# Altium footprint library imxbb.PcbLib: 75 footprints (part 4 of 5)
Each footprint in its own frame and in the unit in brackets; x right, y up, seen from the top. Pads: shape width x height; smd on the part's side, far side on the other; paste and mask are expansions set on the pad; w line width, h text height; cw(c..) or ccw(c..) is an arc to the next point about the centre after c.
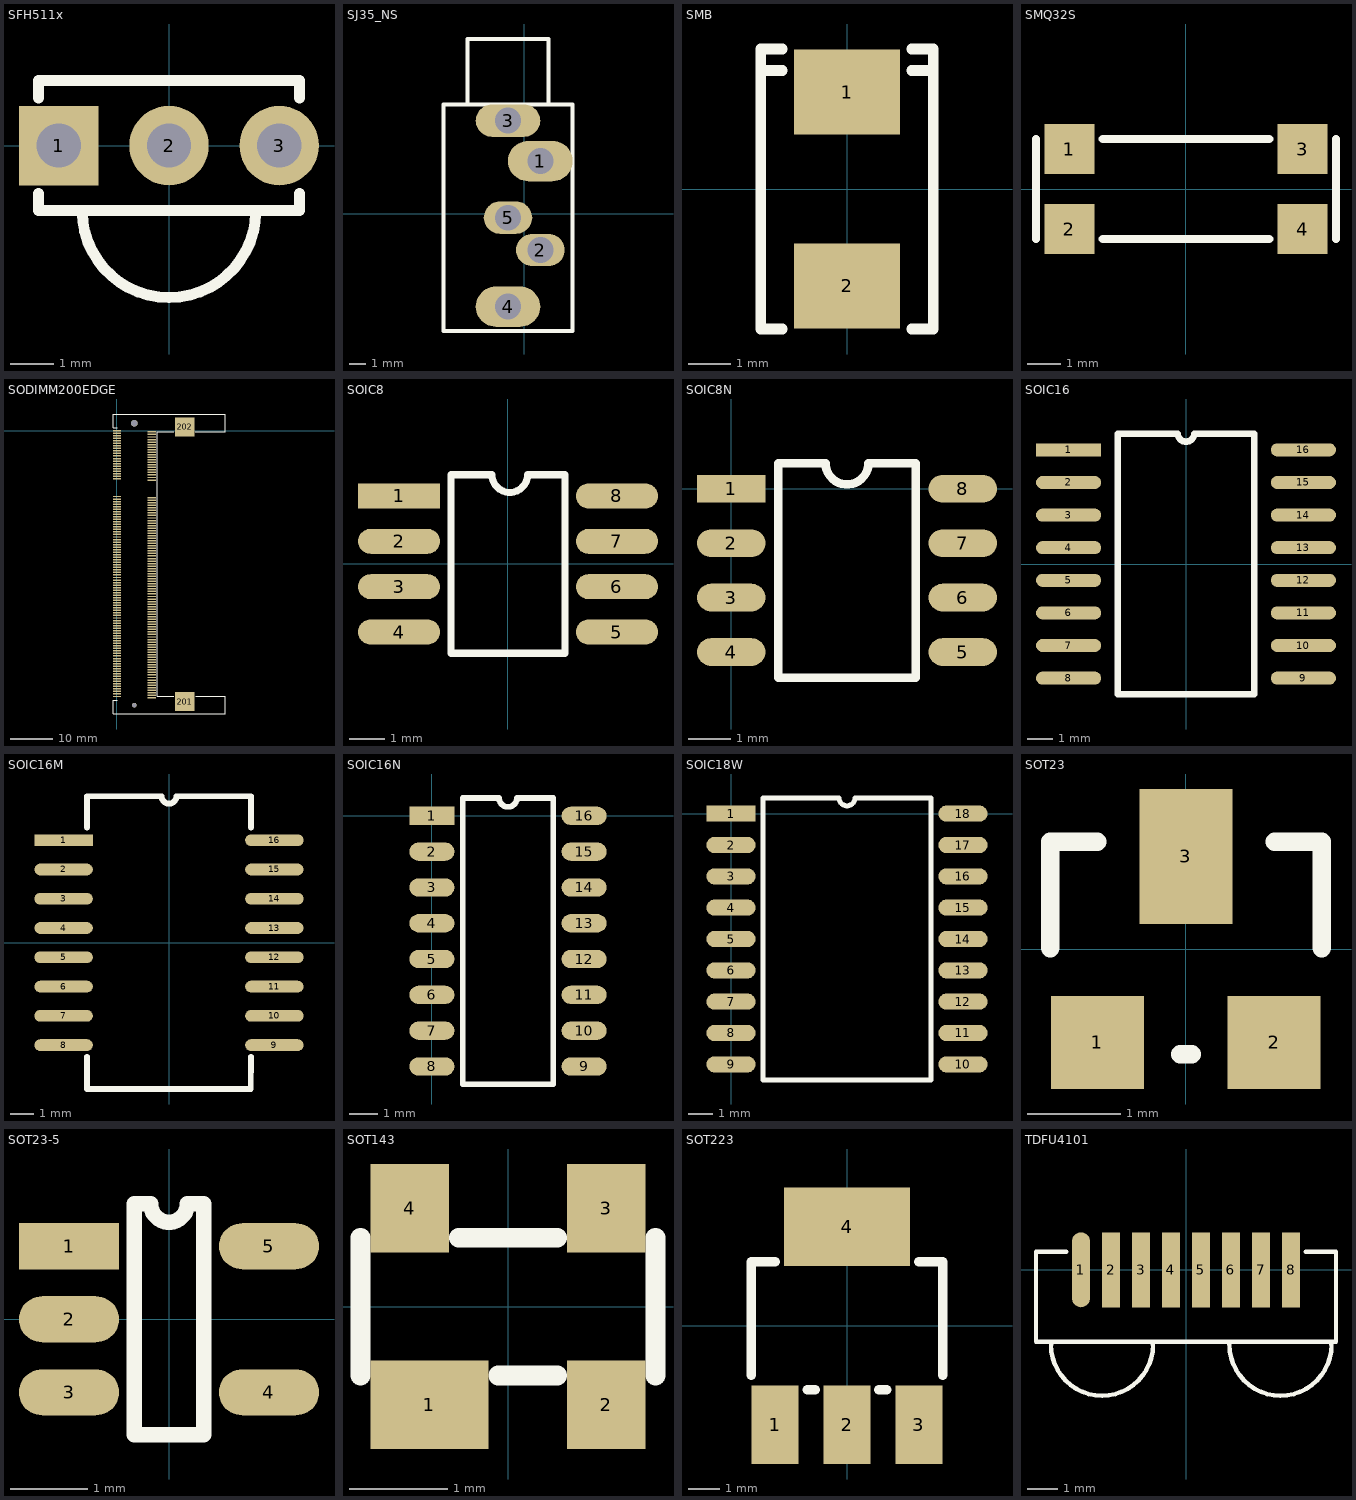
[diagram p3: the footprints below, top view; thin cyan lines are the x and y axes]

## SFH511x [mil]
pads (3):
  rect 72x72 hole 40: 1(-100,0)
  round 72 hole 40: 2(0,0) 3(100,0)
Top Overlay:
  lines w10: -118.11,-43.31 -118.11,-59.06 118.11,-59.06 118.11,-43.31 ; -118.11,43.31 -118.11,59.05 118.11,59.05 118.11,43.31 ; -78.74,-59.06 ccw(c0,-59.06) 78.74,-59.06

## SJ35_NS [mm]
pads (5):
  oval 4x2.5 hole 1.6: 1(1,3.25) 4(-1,-5.75)
  oval 3x2 hole 1.6: 2(1,-2.25) 5(-1,-0.25)
  oval 4x2 hole 1.6: 3(-1,5.75)
Top Overlay:
  lines w0.254: -3.5,6.75 -3.5,10.8 1.5,10.8 1.5,6.75 ; -5,-7.25 3,-7.25 3,6.75 -5,6.75 -5,-7.25

## SMB [mm]
pads (2):
  rect 2.5x2 smd: 1(0,2.286) 2(0,-2.286)
Top Overlay:
  lines w0.254: -2.032,2.794 -1.524,2.794 ; -1.524,-3.302 -2.032,-3.302 -2.032,3.302 -1.524,3.302 ; 1.524,-3.302 2.032,-3.302 2.032,3.302 1.524,3.302 ; 1.524,2.794 2.032,2.794

## SMQ32S [mm]
pads (4):
  rect 1.5x1.5 smd: 1(-3.495,1.21) 2(-3.495,-1.19) 3(3.505,1.21) 4(3.505,-1.19)
Top Overlay:
  lines w0.254: -4.495,-1.49 -4.495,1.51 ; -2.495,-1.49 2.505,-1.49 ; -2.495,1.51 2.505,1.51 ; 4.505,-1.49 4.505,1.51

## SODIMM200EDGE [mm]
pads (204):
  rect 2x0.35 smd: 1(0,0) 2(8.2,-0.3) 3(0,-0.6) 4(8.2,-0.9) 5(0,-1.2) 6(8.2,-1.5) 7(0,-1.8) 8(8.2,-2.1) 9(0,-2.4) 10(8.2,-2.7) 11(0,-3) 12(8.2,-3.3) 13(0,-3.6) 14(8.2,-3.9) 15(0,-4.2) 16(8.2,-4.5) 17(0,-4.8) 18(8.2,-5.1) 19(0,-5.4) 20(8.2,-5.7) 21(0,-6) 22(8.2,-6.3) 23(0,-6.6) 24(8.2,-6.9) 25(0,-7.2) 26(8.2,-7.5) 27(0,-7.8) 28(8.2,-8.1) 29(0,-8.4) 30(8.2,-8.7) 31(0,-9) 32(8.2,-9.3) 33(0,-9.6) 34(8.2,-9.9) 35(0,-10.2) 36(8.2,-10.5) 37(0,-10.8) 38(8.2,-11.1) 39(0,-11.4) 40(8.2,-11.7) 41(0,-15.6) 42(8.2,-15.9) 43(0,-16.2) 44(8.2,-16.5) 45(0,-16.8) 46(8.2,-17.1) 47(0,-17.4) 48(8.2,-17.7) 49(0,-18) 50(8.2,-18.3) 51(0,-18.6) 52(8.2,-18.9) 53(0,-19.2) 54(8.2,-19.5) 55(0,-19.8) 56(8.2,-20.1) 57(0,-20.4) 58(8.2,-20.7) 59(0,-21) 60(8.2,-21.3) 61(0,-21.6) 62(8.2,-21.9) 63(0,-22.2) 64(8.2,-22.5) 65(0,-22.8) 66(8.2,-23.1) 67(0,-23.4) 68(8.2,-23.7) 69(0,-24) 70(8.2,-24.3) 71(0,-24.6) 72(8.2,-24.9) 73(0,-25.2) 74(8.2,-25.5) 75(0,-25.8) 76(8.2,-26.1) 77(0,-26.4) 78(8.2,-26.7) 79(0,-27) 80(8.2,-27.3) 81(0,-27.6) 82(8.2,-27.9) 83(0,-28.2) 84(8.2,-28.5) 85(0,-28.8) 86(8.2,-29.1) 87(0,-29.4) 88(8.2,-29.7) 89(0,-30) 90(8.2,-30.3) 91(0,-30.6) 92(8.2,-30.9) 93(0,-31.2) 94(8.2,-31.5) 95(0,-31.8) 96(8.2,-32.1) 97(0,-32.4) 98(8.2,-32.7) 99(0,-33) 100(8.2,-33.3) 101(0,-33.6) 102(8.2,-33.9) 103(0,-34.2) 104(8.2,-34.5) 105(0,-34.8) 106(8.2,-35.1) 107(0,-35.4) 108(8.2,-35.7) 109(0,-36) 110(8.2,-36.3) 111(0,-36.6) 112(8.2,-36.9) 113(0,-37.2) 114(8.2,-37.5) 115(0,-37.8) 116(8.2,-38.1) 117(0,-38.4) 118(8.2,-38.7) 119(0,-39) 120(8.2,-39.3) 121(0,-39.6) 122(8.2,-39.9) 123(0,-40.2) 124(8.2,-40.5) 125(0,-40.8) 126(8.2,-41.1) 127(0,-41.4) 128(8.2,-41.7) 129(0,-42) 130(8.2,-42.3) 131(0,-42.6) 132(8.2,-42.9) 133(0,-43.2) 134(8.2,-43.5) 135(0,-43.8) 136(8.2,-44.1) 137(0,-44.4) 138(8.2,-44.7) 139(0,-45) 140(8.2,-45.3) 141(0,-45.6) 142(8.2,-45.9) 143(0,-46.2) 144(8.2,-46.5) 145(0,-46.8) 146(8.2,-47.1) 147(0,-47.4) 148(8.2,-47.7) 149(0,-48) 150(8.2,-48.3) 151(0,-48.6) 152(8.2,-48.9) 153(0,-49.2) 154(8.2,-49.5) 155(0,-49.8) 156(8.2,-50.1) 157(0,-50.4) 158(8.2,-50.7) 159(0,-51) 160(8.2,-51.3) 161(0,-51.6) 162(8.2,-51.9) 163(0,-52.2) 164(8.2,-52.5) 165(0,-52.8) 166(8.2,-53.1) 167(0,-53.4) 168(8.2,-53.7) 169(0,-54) 170(8.2,-54.3) 171(0,-54.6) 172(8.2,-54.9) 173(0,-55.2) 174(8.2,-55.5) 175(0,-55.8) 176(8.2,-56.1) 177(0,-56.4) 178(8.2,-56.7) 179(0,-57) 180(8.2,-57.3) 181(0,-57.6) 182(8.2,-57.9) 183(0,-58.2) 184(8.2,-58.5) 185(0,-58.8) 186(8.2,-59.1) 187(0,-59.4) 188(8.2,-59.7) 189(0,-60) 190(8.2,-60.3) 191(0,-60.6) 192(8.2,-60.9) 193(0,-61.2) 194(8.2,-61.5) 195(0,-61.8) 196(8.2,-62.1) 197(0,-62.4) 198(8.2,-62.7) 199(0,-63) 200(8.2,-63.3)
  rect 4.6x4.5 smd: 201(16.1,-64.2) 202(16.1,0.9)
  round 1.1 hole 1.1 unplated: 203(4.1,-65.05)
  round 1.6 hole 1.6 unplated: 204(4.1,1.75)
Top Overlay:
  lines w0.15: 0.1,-63.95 -0.9,-63.95 -0.9,-67.15 25.65,-67.15 25.65,-62.9 18.65,-62.9 ; 0.1,0.75 -0.9,0.75 -0.9,3.95 25.65,3.95 25.65,-0.3 18.6,-0.3 ; 13.45,-62.9 9.55,-62.9 9.55,-0.3 13.45,-0.3

## SOIC8 [mm]
pads (8):
  rect 2.3x0.7 smd: 1(-3.05,1.905)
  oval 2.3x0.7 smd: 2(-3.05,0.635) 3(-3.05,-0.635) 4(-3.05,-1.905) 5(3.05,-1.905) 6(3.05,-0.635) 7(3.05,0.635) 8(3.05,1.905)
Top Overlay:
  lines w0.2: -0.45,2.5 -1.6,2.5 -1.6,-2.5 1.6,-2.5 1.6,2.5 0.55,2.5 ; -0.45,2.505 ccw(c0.05,2.505) 0.55,2.505

## SOIC8N [mm]
pads (8):
  rect 1.6x0.65 smd: 1(0,0)
  oval 1.6x0.65 smd: 2(0,-1.27) 3(0,-2.54) 4(0,-3.81) 5(5.4,-3.81) 6(5.4,-2.54) 7(5.4,-1.27) 8(5.4,0)
Top Overlay:
  lines w0.2: 2.2,0.595 1.1,0.595 1.1,-4.405 4.3,-4.405 4.3,0.595 3.2,0.595 ; 2.2,0.6 ccw(c2.7,0.6) 3.2,0.6

## SOIC16 [mil]
pads (16):
  rect 100x20 smd: 1(-180,175)
  oval 100x20 smd: 2(-180,125) 3(-180,75) 4(-180,25) 5(-180,-25) 6(-180,-75) 7(-180,-125) 8(-180,-175) 9(180,-175) 10(180,-125) 11(180,-75) 12(180,-25) 13(180,25) 14(180,75) 15(180,125) 16(180,175)
Top Overlay:
  lines w10: -105,-200 105,-200 105,200 12.5,200 cw(c0,200) -12.5,200 -105,200 -105,-200

## SOIC16M [mil]
pads (16):
  rect 100x20 smd: 1(-180,175)
  oval 100x20 smd: 2(-180,125) 3(-180,75) 4(-180,25) 5(-180,-25) 6(-180,-75) 7(-180,-125) 8(-180,-175) 9(180,-175) 10(180,-125) 11(180,-75) 12(180,-25) 13(180,25) 14(180,75) 15(180,125) 16(180,175)
Top Overlay:
  lines w10: -140,-250 -140,-194.88 ; -140,196.85 -140,250 ; -139.76,-250 139.76,-250 139.84,-194.88 ; -139.76,250 -12.5,250 ccw(c0,250) 12.5,250 139.76,250 ; 140,196.85 140,250

## SOIC16N [mm]
pads (16):
  rect 1.6x0.65 smd: 1(0,0)
  oval 1.6x0.65 smd: 2(0,-1.27) 3(0,-2.54) 4(0,-3.81) 5(0,-5.08) 6(0,-6.35) 7(0,-7.62) 8(0,-8.89) 9(5.4,-8.89) 10(5.4,-7.62) 11(5.4,-6.35) 12(5.4,-5.08) 13(5.4,-3.81) 14(5.4,-2.54) 15(5.4,-1.27) 16(5.4,0)
Top Overlay:
  lines w0.2: 1.1,-9.525 4.3,-9.525 4.3,0.635 3.018,0.635 cw(c2.7,0.635) 2.382,0.635 1.1,0.635 1.1,-9.525

## SOIC18W [mm]
pads (18):
  rect 2x0.65 smd: 1(0,0)
  oval 2x0.65 smd: 2(0,-1.27) 3(0,-2.54) 4(0,-3.81) 5(0,-5.08) 6(0,-6.35) 7(0,-7.62) 8(0,-8.89) 9(0,-10.16) 10(9.4,-10.16) 11(9.4,-8.89) 12(9.4,-7.62) 13(9.4,-6.35) 14(9.4,-5.08) 15(9.4,-3.81) 16(9.4,-2.54) 17(9.4,-1.27) 18(9.4,0)
Top Overlay:
  lines w0.2: 1.3,-10.795 1.3,0.635 4.383,0.635 ccw(c4.7,0.635) 5.017,0.635 8.1,0.635 8.1,-10.795 1.3,-10.795

## SOT23 [mm]
pads (3):
  rect 1x1 smd: 1(-0.95,-1) 2(0.95,-1)
  rect 1x1.45 smd: 3(0,1)
Top Overlay:
  lines w0.2: -1.458,0.016 -1.458,1.159 -0.95,1.159 ; -0.061,-1.127 0.066,-1.127 ; 0.955,1.159 1.463,1.159 1.463,0.016

## SOT23-5 [mm]
pads (5):
  rect 1.3x0.6 smd: 1(-1.3,0.95)
  oval 1.3x0.6 smd: 2(-1.3,0) 3(-1.3,-0.95) 4(1.3,-0.95) 5(1.3,0.95)
Top Overlay:
  lines w0.2: -0.45,-1.5 0.45,-1.5 0.45,1.5 0.238,1.5 cw(c0,1.5) -0.238,1.5 -0.45,1.5 -0.45,-1.5

## SOT143 [mm]
pads (4):
  rect 1.2x0.9 smd: 1(-0.8,-1)
  rect 0.8x0.9 smd: 2(1,-1) 3(1,1) 4(-1,1)
Top Overlay:
  lines w0.2: -1.5,-0.7 -1.5,0.7 ; -0.5,0.7 0.5,0.7 ; -0.1,-0.7 0.5,-0.7 ; 1.5,-0.7 1.5,0.7

## SOT223 [mm]
pads (4):
  rect 1.5x2.5 smd: 1(-2.29,-3.15) 2(0,-3.15) 3(2.29,-3.15)
  rect 4x2.5 smd: 4(0,3.15)
Top Overlay:
  lines w0.305: -3.048,-1.575 -3.048,2.032 -2.286,2.032 ; -1.27,-2.032 -1.016,-2.032 ; 1.016,-2.032 1.27,-2.032 ; 2.286,2.032 3.048,2.032 3.048,-1.575

## TDFU4101 [mm]
pads (8):
  oval 0.6x2.5 smd: 1(-3.5,0)
  rect 0.6x2.5 smd: 2(-2.5,0) 3(-1.5,0) 4(-0.5,0) 5(0.5,0) 6(1.5,0) 7(2.5,0) 8(3.5,0)
Top Overlay:
  lines w0.15: -4.5,-2.5 ccw(c-2.8,-2.5) -1.1,-2.5 ; -4,0.6 -5,0.6 -5,-2.4 5,-2.4 5,0.6 4,0.6 ; 1.45,-2.5 ccw(c3.15,-2.5) 4.85,-2.5